# Altium footprint library rcl.PCBLIB: 487 footprints (part 25 of 31)
Each footprint in its own frame and in the unit in brackets; x right, y up, seen from the top. Pads: shape width x height; smd on the part's side, far side on the other; paste and mask are expansions set on the pad; w line width, h text height; cw(c..) or ccw(c..) is an arc to the next point about the centre after c.
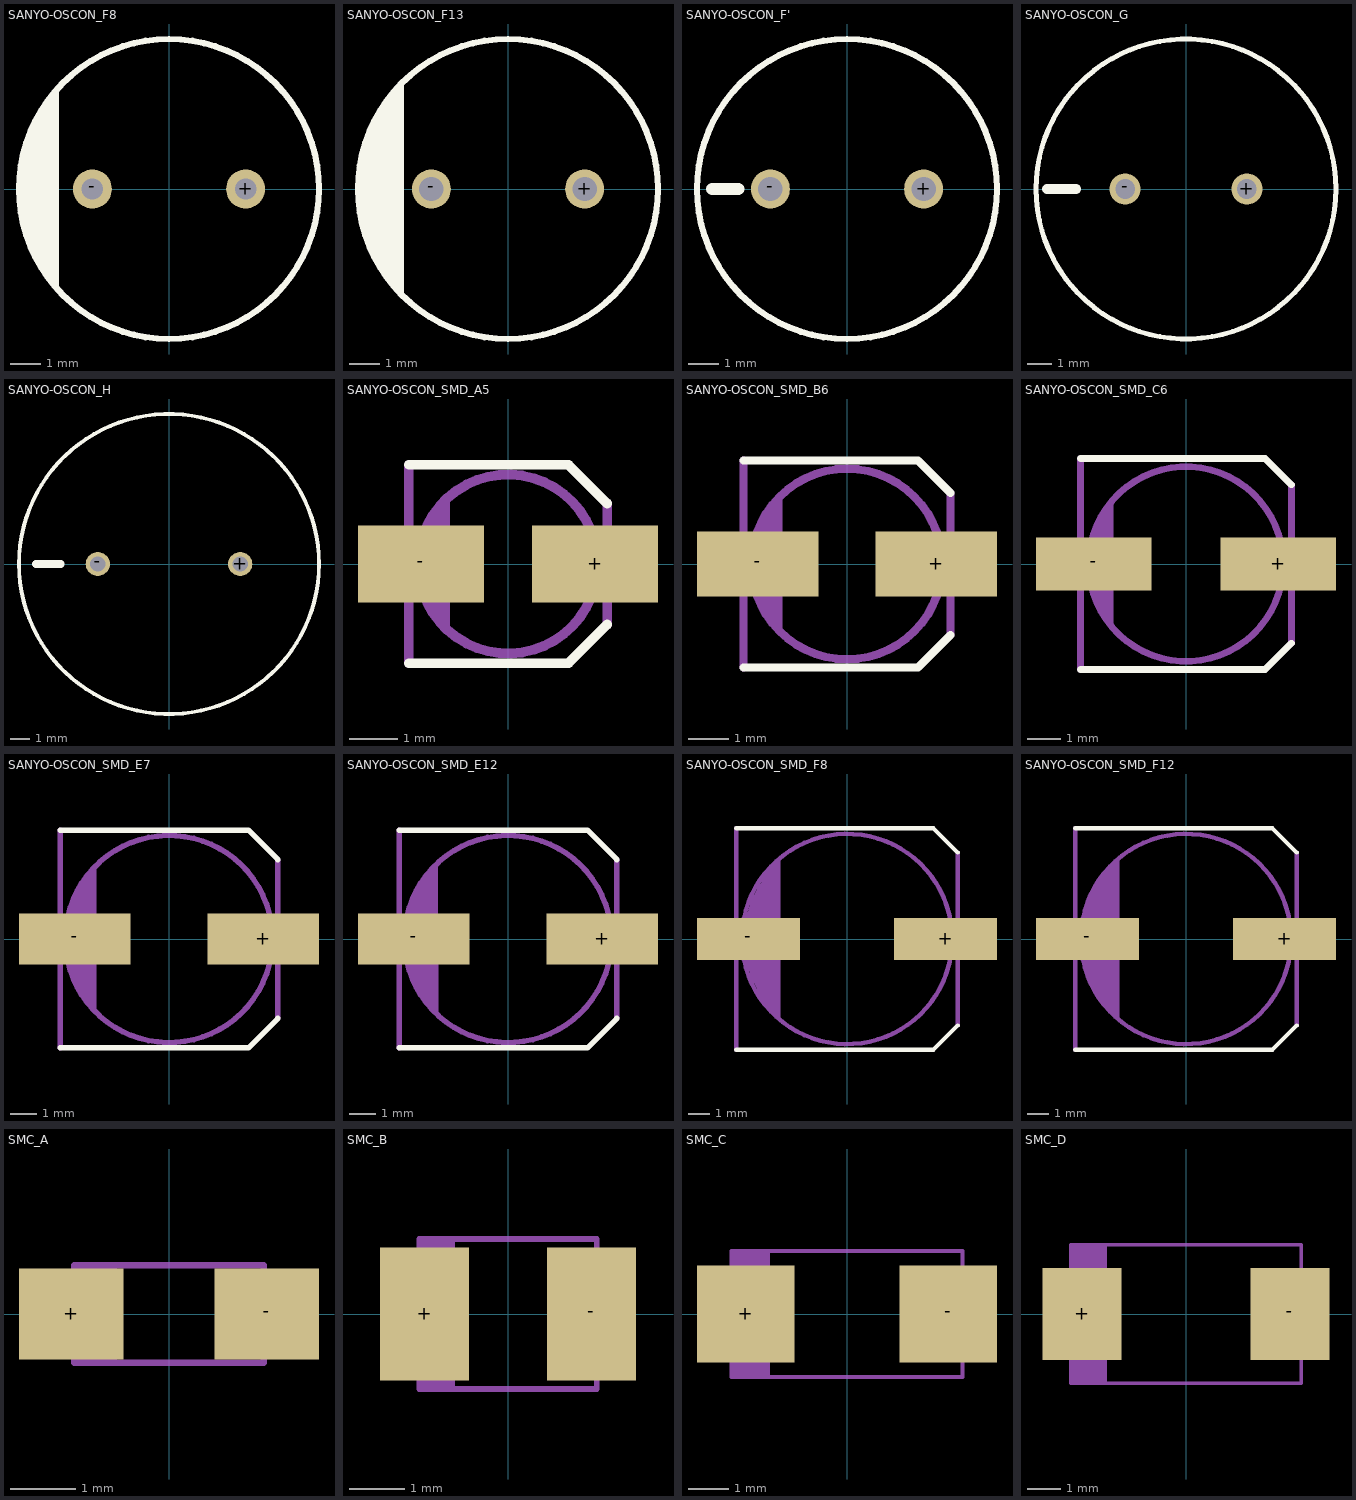
[diagram p24: the footprints below, top view; thin cyan lines are the x and y axes]

## SANYO-OSCON_F8 [mil]
pads (2):
  round 50 hole 27.56: +(98.43,0) -(-98.43,0)
Top Overlay:
  circle w8: c0,0 r192.91
  region: -141.73,125.98 -141.73,-127.95 -150.87,-117.53 -165.11,-96.22 -176.45,-73.23 -184.69,-48.95 -189.69,-23.81 -191.25,0 -189.73,23.21 -184.86,47.65 -176.85,71.25 -165.83,93.6 -151.99,114.32 -141.75,126

## SANYO-OSCON_F13 [mil]
pads (2):
  round 50 hole 31.5: +(98.43,0) -(-98.43,0)
Top Overlay:
  circle w8: c0,0 r192.91
  region: -133.86,135.83 -133.99,-133.98 -148.61,-117.31 -163.73,-94.69 -175.76,-70.28 -184.51,-44.52 -189.82,-17.83 -190.98,0 -191.04,0 -189.73,20.02 -184.43,46.65 -175.71,72.35 -163.7,96.7 -148.62,119.27 -133.99,135.95

## SANYO-OSCON_F' [mil]
pads (2):
  round 50 hole 31.5: +(98.43,0) -(-98.43,0)
Top Overlay:
  circle w8: c0,0 r192.92
  lines w16: -173.23,0 -139.76,0

## SANYO-OSCON_G [mil]
pads (2):
  round 50 hole 31.5: +(98.43,0) -(-98.43,0)
Top Overlay:
  circle w8: c0,0 r242.13
  lines w16: -224.41,0 -177.17,0

## SANYO-OSCON_H [mil]
pads (2):
  round 50 hole 31.5: +(147.64,0) -(-147.64,0)
Top Overlay:
  circle w8: c0,0 r311.03
  lines w16: -275.59,0 -224.41,0

## SANYO-OSCON_SMD_A5 [mil]
pads (2):
  rect 102.36x62.99 smd: +(70.87,0) -(-70.87,0)
Top Overlay:
  lines w8: -80.71,-80.71 49.21,-80.71 80.71,-49.21 ; -80.71,80.71 49.21,80.71 80.71,49.21
Mechanical 16:
  circle w8: c0,0 r72.83
  region: -47.24,-53.15 -47.39,53.3 -48.79,52.15 -58.33,40.52 -65.43,27.25 -69.79,12.86 -71.06,0.01 -70.89,0 -69.87,-10.3 -64.89,-26.72 -56.81,-41.84 -47.4,-53.3
  lines w8: -80.71,-80.71 -80.71,80.71 ; 80.71,-49.21 80.71,49.21

## SANYO-OSCON_SMD_B6 [mm]
pads (2):
  rect 3x1.6 smd: +(2.2,0) -(-2.2,0)
Top Overlay:
  lines w0.203: -2.55,-2.55 1.75,-2.55 2.55,-1.75 ; -2.55,2.55 1.75,2.55 2.55,1.75
Mechanical 16:
  circle w0.203: c0,0 r2.35
  region: -1.6,-1.65 -1.6,1.65 -1.764,1.458 -2.003,1.068 -2.178,0.647 -2.284,0.203 -2.3,0 -2.305,0 -2.265,-0.407 -2.123,-0.875 -1.893,-1.307 -1.606,-1.656
  lines w0.203: -2.55,-2.55 -2.55,2.55 ; 2.55,-1.75 2.55,1.75

## SANYO-OSCON_SMD_C6 [mil]
pads (2):
  rect 137.8x62.99 smd: +(110.24,0) -(-110.24,0)
Top Overlay:
  lines w8: -125.98,-125.98 94.49,-125.98 125.98,-94.49 ; -125.98,125.98 94.49,125.98 125.98,94.49
Mechanical 16:
  circle w8: c0,0 r116.14
  region: -86.61,74.8 -86.67,-74.85 -89.99,-70.95 -99.69,-55.13 -106.79,-37.99 -111.12,-19.95 -112.57,-1.45 -112.46,0 -111.03,18.15 -106.34,37.68 -98.66,56.24 -88.17,73.36 -86.81,74.95
  lines w8: -125.98,-125.98 -125.98,125.98 ; 125.98,-94.49 125.98,94.49

## SANYO-OSCON_SMD_E7 [mil]
pads (2):
  rect 163.39x74.8 smd: +(137.8,0) -(-137.8,0)
Top Overlay:
  lines w8: -159.45,-159.45 116.14,-159.45 159.45,-116.14 ; -159.45,159.45 116.14,159.45 159.45,116.14
Mechanical 16:
  circle w8: c0,0 r151.57
  region: -106.3,104.33 -106.46,-104.5 -108.7,-102.59 -123.09,-85.74 -134.67,-66.84 -143.16,-46.36 -148.33,-24.8 -150.07,-2.71 -149.86,0 -149.97,0 -148.22,22.23 -142.68,45.3 -133.6,67.23 -121.2,87.46 -106.57,104.59
  lines w8: -159.45,-159.45 -159.45,159.45 ; 159.45,-116.14 159.45,116.14

## SANYO-OSCON_SMD_E12 [mil]
pads (2):
  rect 163.39x74.8 smd: +(137.8,0) -(-137.8,0)
Top Overlay:
  lines w8: -159.45,-159.45 116.14,-159.45 159.45,-116.14 ; -159.45,159.45 116.14,159.45 159.45,116.14
Mechanical 16:
  circle w8: c0,0 r151.57
  region: -102.36,-108.27 -102.47,108.39 -106.45,104.99 -122.35,86.37 -135.14,65.5 -144.51,42.88 -150.22,19.07 -151.72,0.01 -151.74,-0.01 -150.22,-19.34 -144.54,-43.01 -135.22,-65.49 -122.51,-86.24 -106.7,-104.74 -102.46,-108.37
  lines w8: -159.45,-159.45 -159.45,159.45 ; 159.45,-116.14 159.45,116.14

## SANYO-OSCON_SMD_F8 [mm]
pads (2):
  rect 4.7x1.9 smd: +(4.5,0) -(-4.5,0)
Top Overlay:
  lines w0.203: -5.05,-5.05 3.95,-5.05 5.05,-3.95 ; -5.05,5.05 3.95,5.05 5.05,3.95
Mechanical 16:
  circle w0.203: c0,0 r4.8
  region: -3.05,-3.65 -3.056,3.656 -3.106,3.612 -3.598,3.051 -4.013,2.43 -4.344,1.76 -4.584,1.052 -4.729,0.32 -4.75,0 -4.725,-0.386 -4.584,-1.092 -4.353,-1.774 -4.035,-2.419 -3.635,-3.018 -3.16,-3.559 -3.053,-3.653
  lines w0.203: -5.05,-5.05 -5.05,5.05 ; 5.05,-3.95 5.05,3.95

## SANYO-OSCON_SMD_F12 [mm]
pads (2):
  rect 4.7x1.9 smd: +(4.5,0) -(-4.5,0)
Top Overlay:
  lines w0.203: -5.05,-5.05 3.95,-5.05 5.05,-3.95 ; -5.05,5.05 3.95,5.05 5.05,3.95
Mechanical 16:
  circle w0.203: c0,0 r4.8
  region: -3.05,-3.65 -3.05,3.65 -3.328,3.407 -3.75,2.926 -4.105,2.393 -4.388,1.819 -4.594,1.213 -4.719,0.586 -4.757,0 -4.751,0 -4.723,-0.423 -4.585,-1.115 -4.359,-1.782 -4.047,-2.414 -3.656,-3 -3.191,-3.53 -3.052,-3.652
  lines w0.203: -5.05,-5.05 -5.05,5.05 ; 5.05,-3.95 5.05,3.95

## SMC_A [mil]
pads (2):
  rect 62.99x55.12 smd: +(-59.06,0) -(59.06,0)
Mechanical 16:
  rectangle: -62.99,-23.62 -55.12,23.62
  region: 62.99,23.62 55.12,23.62 55.12,-23.62 62.99,-23.62
  rectangle: -57.09,-29.53 -31.5,29.53
  lines w4: -57.09,-29.53 57.09,-29.53 57.09,29.53 -57.09,29.53 -57.09,-29.53

## SMC_B [mil]
pads (2):
  rect 62.99x94.49 smd: +(-59.06,0) -(59.06,0)
Mechanical 16:
  rectangle: -62.99,-53.15 -37.4,53.15
  region: 68.9,43.31 61.02,43.31 61.02,-43.31 68.9,-43.31
  rectangle: -68.9,-43.31 -61.02,43.31
  lines w4: -62.99,-53.15 -62.99,53.15 62.99,53.15 62.99,-53.15 -62.99,-53.15

## SMC_C [mil]
pads (2):
  rect 94.49x94.49 smd: +(-98.43,0) -(98.43,0)
Mechanical 16:
  rectangle: -118.11,-43.31 -110.24,43.31
  region: 118.11,43.31 110.24,43.31 110.24,-43.31 118.11,-43.31
  rectangle: -112.2,-61.02 -74.8,61.02
  lines w4: -112.2,-61.02 112.2,-61.02 112.2,61.02 -112.2,61.02 -112.2,-61.02

## SMC_D [mil]
pads (2):
  rect 94.49x110.24 smd: +(-124.02,0) -(124.02,0)
Mechanical 16:
  rectangle: -143.7,-47.24 -135.83,47.24
  region: 143.7,47.24 135.83,47.24 135.83,-47.24 143.7,-47.24
  rectangle: -137.8,-82.68 -94.49,82.68
  lines w4: -137.8,-82.68 137.8,-82.68 137.8,82.68 -137.8,82.68 -137.8,-82.68